# Altium footprint library H-Signaling device.PCBLIB: 3 footprints
Each footprint in its own frame and in the unit in brackets; x right, y up, seen from the top. Pads: shape width x height; smd on the part's side, far side on the other; paste and mask are expansions set on the pad; w line width, h text height; cw(c..) or ccw(c..) is an arc to the next point about the centre after c.
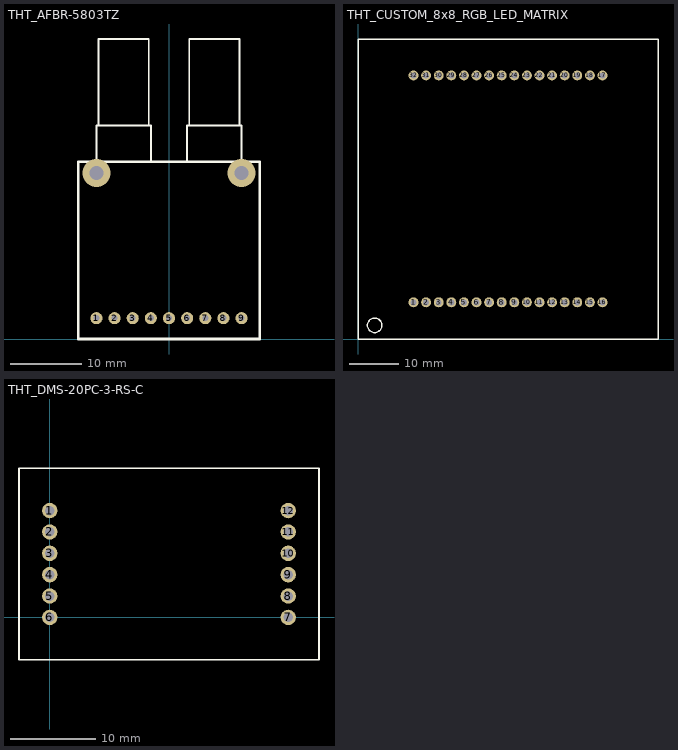
[diagram p0: the footprints below, top view; thin cyan lines are the x and y axes]

## THT_AFBR-5803TZ [mm]
height 12
pads (9):
  round 1.7 hole 0.85: 1(-10.16,2.92) 2(-7.62,2.92) 3(-5.08,2.92) 4(-2.54,2.92) 5(0,2.92) 6(2.54,2.92) 7(5.08,2.92) 8(7.62,2.92) 9(10.16,2.92)
via -10.16,23.24 diameter 3.9 hole 1.95
via 10.16,23.24 diameter 3.9 hole 1.95
Top Overlay:
  lines w0.254: -10.16,24.79 -10.16,29.9 -2.54,29.9 -2.54,24.79 ; -9.86,29.9 -9.86,41.99 -2.84,41.99 -2.84,29.9 ; 2.54,24.79 2.54,29.9 10.16,29.9 10.16,24.79 ; 2.84,29.9 2.84,41.99 9.86,41.99 9.86,29.9
  lines w0.4: -12.7,0 12.7,0 12.7,24.8 -12.7,24.8 -12.7,0

## THT_CUSTOM_8x8_RGB_LED_MATRIX [mm]
pads (32):
  round 2 hole 1.2: 1(11.2,7.4) 2(13.74,7.4) 3(16.28,7.4) 4(18.82,7.4) 5(21.36,7.4) 6(23.9,7.4) 7(26.44,7.4) 8(28.98,7.4) 9(31.52,7.4) 10(34.06,7.4) 11(36.6,7.4) 12(39.14,7.4) 13(41.68,7.4) 14(44.22,7.4) 15(46.76,7.4) 16(49.3,7.4) 17(49.3,53.16) 18(46.76,53.16) 19(44.22,53.16) 20(41.68,53.16) 21(39.14,53.16) 22(36.6,53.16) 23(34.06,53.16) 24(31.52,53.16) 25(28.98,53.16) 26(26.44,53.16) 27(23.9,53.16) 28(21.36,53.16) 29(18.82,53.16) 30(16.28,53.16) 31(13.74,53.16) 32(11.2,53.16)
Top Overlay:
  circle w0.254: c3.35,2.75 r1.46
  lines w0.254: 0,0 60.5,0 60.5,60.5 0,60.5 0,0

## THT_DMS-20PC-3-RS-C [mm]
pads (12):
  round 1.8 hole 1.1: 1(0,12.5) 2(0,10) 3(0,7.5) 4(0,5) 5(0,2.5) 6(0,0) 7(27.9,0) 8(27.9,2.5) 9(27.9,5) 10(27.9,7.5) 11(27.9,10) 12(27.9,12.5)
Top Overlay:
  lines w0.2: -3.6,-4.95 -3.6,17.45 31.5,17.45 31.5,-4.95 -3.6,-4.95